# EAGLE library part MC74HCT125ADTR2G (library TriStateBuffer)
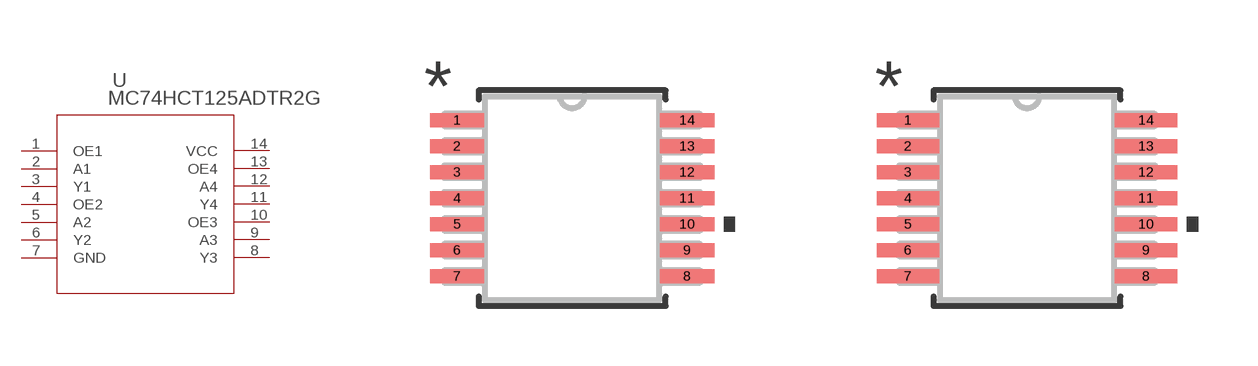
[diagram p0: symbol with the pads of TSSOP14_4P50X5P10_ONS; footprints TSSOP14_4P50X5P10_ONS, TSSOP14_4P50X5P10_ONS-M]

Designator prefix U

## MC74HCT125ADTR2G (COPYRIGHT: Copyright (C) 2016 Accelerated Designs. All rights reserved; MANUFACTURER_PART_NUMBER: MC74HCT125ADTR2G; SOURCELIBRARY: ONSemi_2017-12-12_5; VENDOR: ON Semiconductor)  [TSSOP14_4P50X5P10_ONS]
1  OE1  in
2  A1  in
3  Y1  out
4  OE2  in
5  A2  in
6  Y2  out
7  GND  pwr
8  Y3  out
9  A3  in
10  OE3  in
11  Y4  out
12  A4  in
13  OE4  in
14  VCC  pwr

## MC74HCT125ADTR2GTSSOP14_4P50X5P10_ONS-M (COPYRIGHT: Copyright (C) 2016 Accelerated Designs. All rights reserved; MANUFACTURER_PART_NUMBER: MC74HCT125ADTR2G; SOURCELIBRARY: ONSemi_2017-12-12_5; VENDOR: ON Semiconductor)  [TSSOP14_4P50X5P10_ONS-M]
Pads as for TSSOP14_4P50X5P10_ONS

## MC74HCT125ADTR2GTSSOP14_4P50X5P10_ONS-L (COPYRIGHT: Copyright (C) 2016 Accelerated Designs. All rights reserved; MANUFACTURER_PART_NUMBER: MC74HCT125ADTR2G; SOURCELIBRARY: ONSemi_2017-12-12_5; VENDOR: ON Semiconductor)  [TSSOP14_4P50X5P10_ONS-L]
Pads as for TSSOP14_4P50X5P10_ONS

## Footprint TSSOP14_4P50X5P10_ONS (pad centres in mm)
smd 1.359 x 0.356: 1 -2.877,1.95; 2 -2.877,1.3; 3 -2.877,0.65; 4 -2.877,0; 5 -2.877,-0.65; 6 -2.877,-1.3; 7 -2.877,-1.95; 8 2.877,-1.95; 9 2.877,-1.3; 10 2.877,-0.65; 11 2.877,0; 12 2.877,0.65; 13 2.877,1.3; 14 2.877,1.95

## Footprint TSSOP14_4P50X5P10_ONS-M (pad centres in mm)
smd 1.562 x 0.356: 1 -2.978,1.95; 2 -2.978,1.3; 3 -2.978,0.65; 4 -2.978,0; 5 -2.978,-0.65; 6 -2.978,-1.3; 7 -2.978,-1.95; 8 2.978,-1.95; 9 2.978,-1.3; 10 2.978,-0.65; 11 2.978,0; 12 2.978,0.65; 13 2.978,1.3; 14 2.978,1.95

## Footprint TSSOP14_4P50X5P10_ONS-L (pad centres in mm)
smd 1.156 x 0.305: 1 -2.775,1.95; 2 -2.775,1.3; 3 -2.775,0.65; 4 -2.775,0; 5 -2.775,-0.65; 6 -2.775,-1.3; 7 -2.775,-1.95; 8 2.775,-1.95; 9 2.775,-1.3; 10 2.775,-0.65; 11 2.775,0; 12 2.775,0.65; 13 2.775,1.3; 14 2.775,1.95